# EAGLE library part SATA_POWER (library sata_power)
SATA power connector
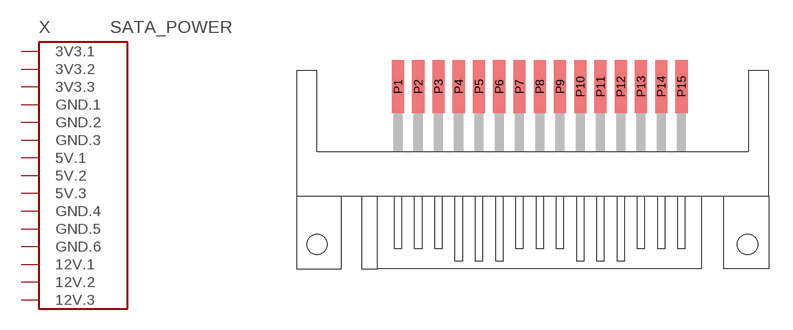
[diagram p0: symbol with the pads of SATA_PWR; footprint SATA_PWR]

Designator prefix X

## SATA_POWER  [SATA_PWR]
P1  3V3.1  pas
P2  3V3.2  pas
P3  3V3.3  pas
P4  GND.1  pas
P5  GND.2  pas
P6  GND.3  pas
P7  5V.1  pas
P8  5V.2  pas
P9  5V.3  pas
P10  GND.4  pas
P11  GND.5  pas
P12  GND.6  pas
P13  12V.1  pas
P14  12V.2  pas
P15  12V.3  pas

## Footprint SATA_PWR (pad centres in mm)
smd 0.762 x 3.302: P1 6.35,11.43; P2 7.62,11.43; P3 8.89,11.43; P4 10.16,11.43; P5 11.43,11.43; P6 12.7,11.43; P7 13.97,11.43; P8 15.24,11.43; P9 16.51,11.43; P10 17.78,11.43; P11 19.05,11.43; P12 20.32,11.43; P13 21.59,11.43; P14 22.86,11.43; P15 24.13,11.43
hole 1.27 at 1.27,1.524
hole 1.27 at 28.27,1.524